# EAGLE library part 1114N-TUBO-DIP (library 1114FN28-Kids-Shiled)
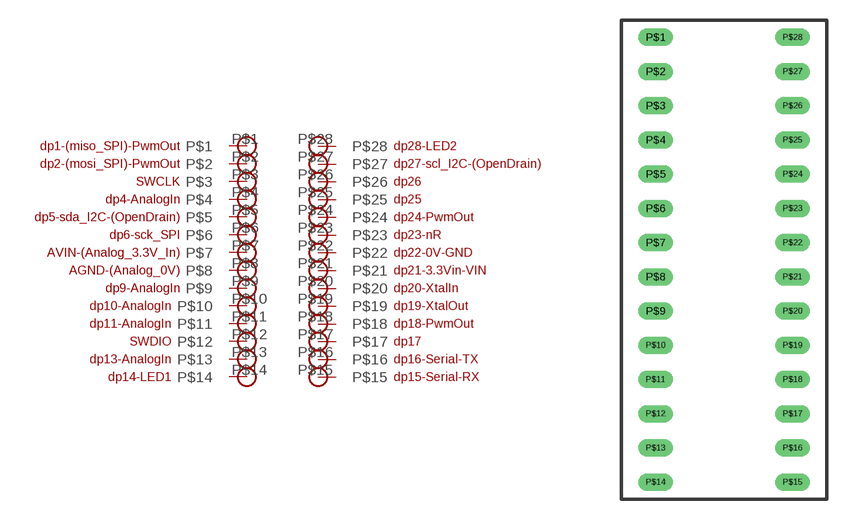
[diagram p0: symbol with the pads of 1114N-TUBO-DIP; footprint 1114N-TUBO-DIP]

Designator prefix -

## 1114N-TUBO-DIP  [1114N-TUBO-DIP]
P$1  P$1
P$2  P$2
P$3  P$3
P$4  P$4
P$5  P$5
P$6  P$6
P$7  P$7
P$8  P$8
P$9  P$9
P$10  P$10
P$11  P$11
P$12  P$12
P$13  P$13
P$14  P$14
P$15  P$15
P$16  P$16
P$17  P$17
P$18  P$18
P$19  P$19
P$20  P$20
P$21  P$21
P$22  P$22
P$23  P$23
P$24  P$24
P$25  P$25
P$26  P$26
P$27  P$27
P$28  P$28

## Footprint 1114N-TUBO-DIP (pad centres in mm)
drill 0.8 long: P$1 -5.08,16.51; P$2 -5.08,13.97; P$3 -5.08,11.43; P$4 -5.08,8.89; P$5 -5.08,6.35; P$6 -5.08,3.81; P$7 -5.08,1.27; P$8 -5.08,-1.27; P$9 -5.08,-3.81; P$10 -5.08,-6.35; P$11 -5.08,-8.89; P$12 -5.08,-11.43; P$13 -5.08,-13.97; P$14 -5.08,-16.51; P$15 5.08,-16.51; P$16 5.08,-13.97; P$17 5.08,-11.43; P$18 5.08,-8.89; P$19 5.08,-6.35; P$20 5.08,-3.81; P$21 5.08,-1.27; P$22 5.08,1.27; P$23 5.08,3.81; P$24 5.08,6.35; P$25 5.08,8.89; P$26 5.08,11.43; P$27 5.08,13.97; P$28 5.08,16.51